# EAGLE library part MSP430G2553 (library interface)
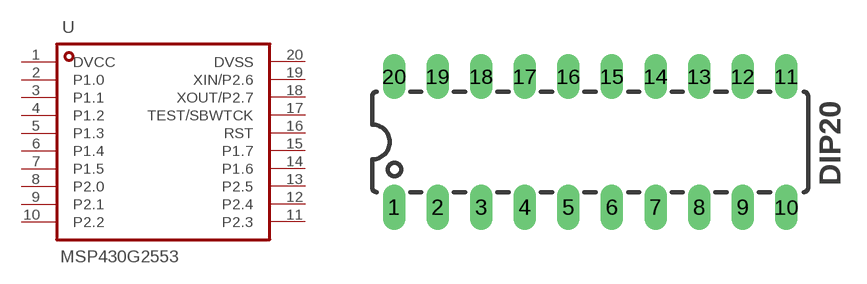
[diagram p1: symbol with the pads of DIP20; footprint DIP20]

Designator prefix -

## MSP430G2553IN20  [DIP20]
1  DVCC  pwr
2  P1.0
3  P1.1
4  P1.2
5  P1.3
6  P1.4
7  P1.5
8  P2.0
9  P2.1
10  P2.2
11  P2.3
12  P2.4
13  P2.5
14  P1.6
15  P1.7
16  RST
17  TEST/SBWTCK
18  XOUT/P2.7
19  XIN/P2.6
20  DVSS  pwr

## Footprint DIP20 (pad centres in mm)
drill 0.813 pad 1.27 long: 1 -11.43,-3.81
drill 0.813 long: 2 -8.89,-3.81; 3 -6.35,-3.81; 4 -3.81,-3.81; 5 -1.27,-3.81; 6 1.27,-3.81; 7 3.81,-3.81; 8 6.35,-3.81; 9 8.89,-3.81; 10 11.43,-3.81; 11 11.43,3.81; 12 8.89,3.81; 13 6.35,3.81; 14 3.81,3.81; 15 1.27,3.81; 16 -1.27,3.81; 17 -3.81,3.81; 18 -6.35,3.81; 19 -8.89,3.81; 20 -11.43,3.81